# Altium footprint library con-hirose.PCBLIB: 71 footprints (part 1 of 6)
Each footprint in its own frame and in the unit in brackets; x right, y up, seen from the top. Pads: shape width x height; smd on the part's side, far side on the other; paste and mask are expansions set on the pad; w line width, h text height; cw(c..) or ccw(c..) is an arc to the next point about the centre after c.
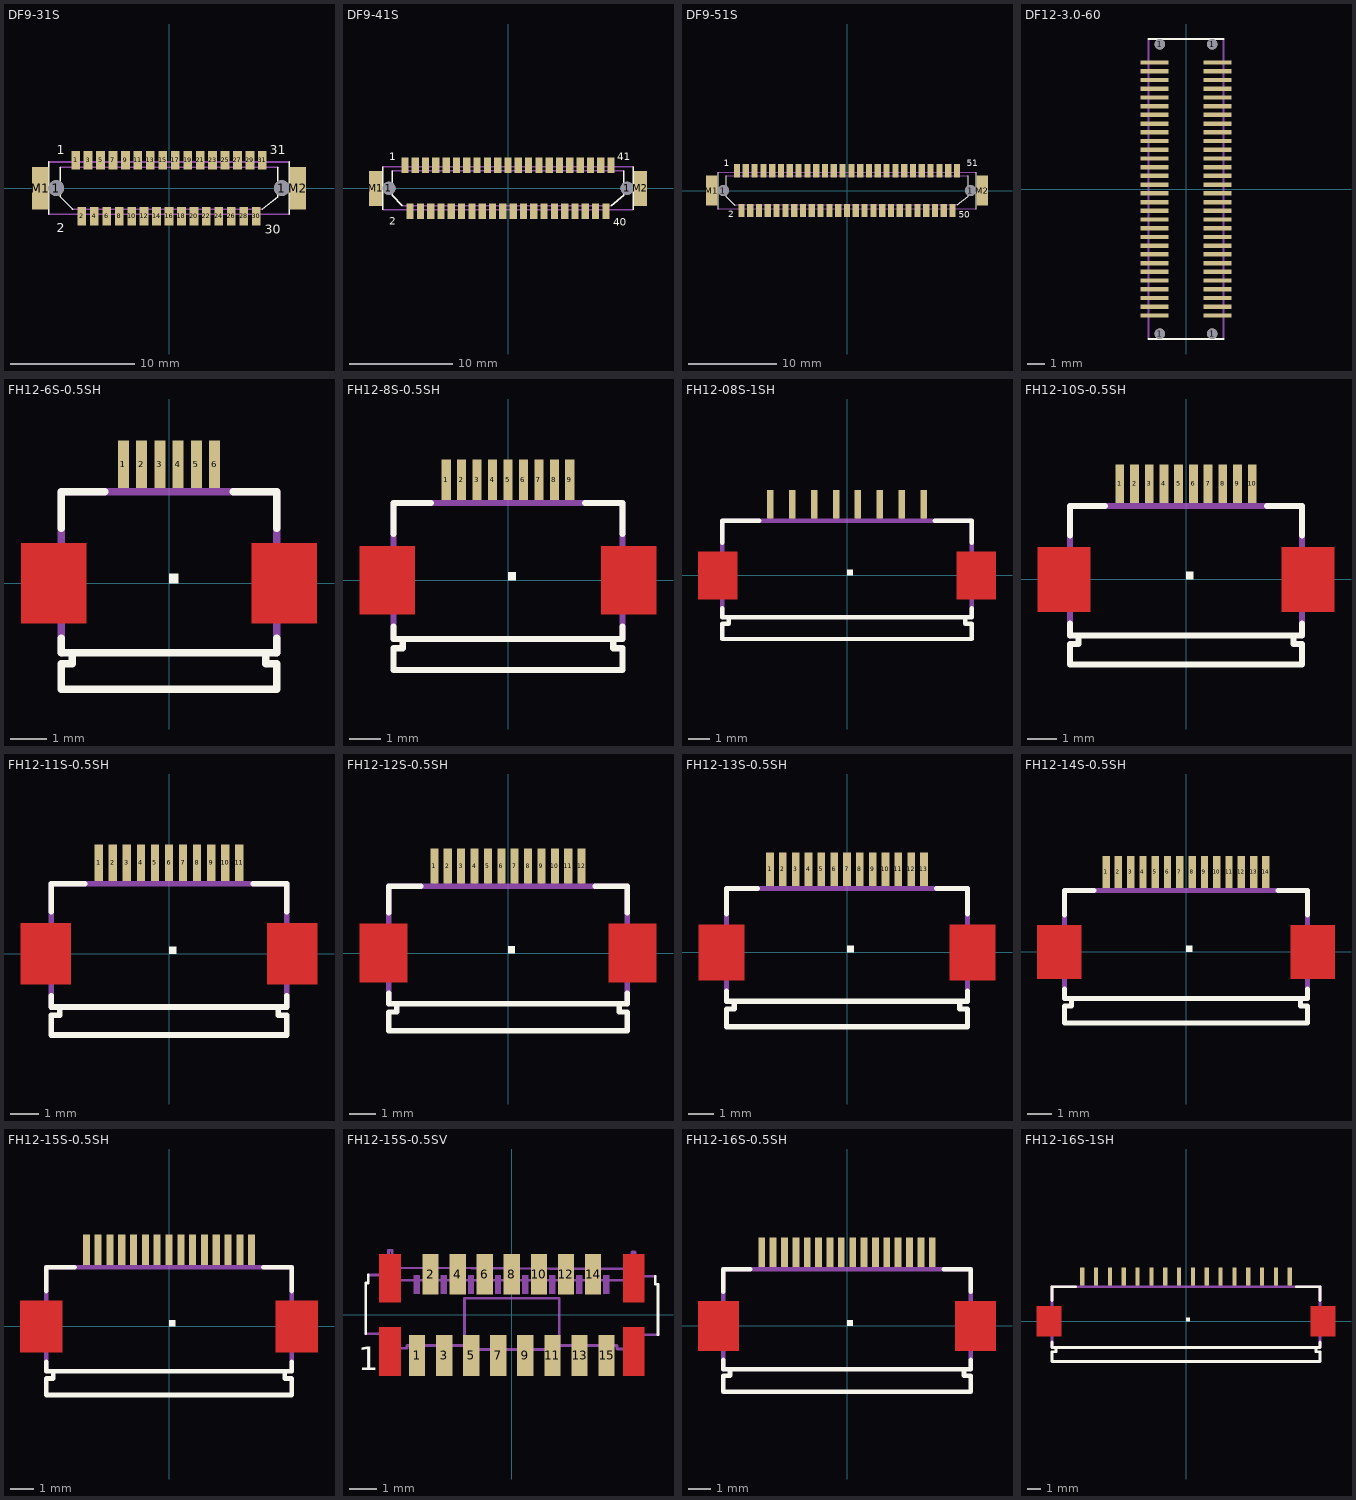
[diagram p0: the footprints below, top view; thin cyan lines are the x and y axes]

## DF9-31S [mm]
pads (35):
  round 1.27 hole 1.27: 1(-9.05,0) 1(9.05,0)
  rect 0.7x1.5 smd: 1(-7.5,2.25) 2(-7,-2.25) 3(-6.5,2.25) 4(-6,-2.25) 5(-5.5,2.25) 6(-5,-2.25) 7(-4.5,2.25) 8(-4,-2.25) 9(-3.5,2.25) 10(-3,-2.25) 11(-2.5,2.25) 12(-2,-2.25) 13(-1.5,2.25) 14(-1,-2.25) 15(-0.5,2.25) 16(0,-2.25) 17(0.5,2.25) 18(1,-2.25) 19(1.5,2.25) 20(2,-2.25) 21(2.5,2.25) 22(3,-2.25) 23(3.5,2.25) 24(4,-2.25) 25(4.5,2.25) 26(5,-2.25) 27(5.5,2.25) 28(6,-2.25) 29(6.5,2.25) 30(7,-2.25) 31(7.5,2.25)
  rect 1.3x3.4 smd: M1(-10.35,0) M2(10.35,0)
Top Overlay:
  lines w0.127: -9.65,-2.1 -9.65,2.1 ; -8.75,1.68 -8.75,-0.68 -7.75,-1.68 ; 7.5,-1.68 8.75,-0.68 8.75,1.68 ; 9.65,-2.1 9.65,2.1
  text "1" at -9,2.5 h1.26
  text "2" at -9,-3.8 h1.26
  text "30" at 7.7,-3.9 h1.26
  text "31" at 8.1,2.5 h1.26
Mechanical 16:
  lines w0.127: -9.65,-2.1 9.65,-2.1 ; -9.65,2.1 9.65,2.1 ; -8.75,1.68 8.75,1.68 ; -7.75,-1.68 7.5,-1.68

## DF9-41S [mm]
pads (45):
  round 1.27 hole 1.27: 1(-11.55,0) 1(11.55,0)
  rect 0.7x1.5 smd: 1(-10,2.25) 2(-9.5,-2.25) 3(-9,2.25) 4(-8.5,-2.25) 5(-8,2.25) 6(-7.5,-2.25) 7(-7,2.25) 8(-6.5,-2.25) 9(-6,2.25) 10(-5.5,-2.25) 11(-5,2.25) 12(-4.5,-2.25) 13(-4,2.25) 14(-3.5,-2.25) 15(-3,2.25) 16(-2.5,-2.25) 17(-2,2.25) 18(-1.5,-2.25) 19(-1,2.25) 20(-0.5,-2.25) 21(0,2.25) 22(0.5,-2.25) 23(1,2.25) 24(1.5,-2.25) 25(2,2.25) 26(2.5,-2.25) 27(3,2.25) 28(3.5,-2.25) 29(4,2.25) 30(4.5,-2.25) 31(5,2.25) 32(5.5,-2.25) 33(6,2.25) 34(6.5,-2.25) 35(7,2.25) 36(7.5,-2.25) 37(8,2.25) 38(8.5,-2.25) 39(9,2.25) 40(9.5,-2.25) 41(10,2.25)
  rect 1.3x3.4 smd: M1(-12.85,0) M2(12.85,0)
Top Overlay:
  lines w0.127: -12.15,-2.1 -12.15,2.1 ; -11.25,1.68 -11.25,-0.68 -10.25,-1.68 ; 10,-1.68 11.25,-0.68 11.25,1.68 ; 12.15,-2.1 12.15,2.1
  text "1" at -11.5,2.5 h1.26
  text "2" at -11.5,-3.8 h1.26
  text "40" at 10.2,-3.9 h1.26
  text "41" at 10.6,2.5 h1.26
Mechanical 16:
  lines w0.127: -12.15,-2.1 12.15,-2.1 ; -12.15,2.1 12.15,2.1 ; -11.25,1.68 11.25,1.68 ; -10.25,-1.68 10,-1.68

## DF9-51S [mm]
pads (55):
  round 1.27 hole 1.27: 1(-14.05,0) 1(14.05,0)
  rect 0.7x1.5 smd: 1(-12.5,2.25) 2(-12,-2.25) 3(-11.5,2.25) 4(-11,-2.25) 5(-10.5,2.25) 6(-10,-2.25) 7(-9.5,2.25) 8(-9,-2.25) 9(-8.5,2.25) 10(-8,-2.25) 11(-7.5,2.25) 12(-7,-2.25) 13(-6.5,2.25) 14(-6,-2.25) 15(-5.5,2.25) 16(-5,-2.25) 17(-4.5,2.25) 18(-4,-2.25) 19(-3.5,2.25) 20(-3,-2.25) 21(-2.5,2.25) 22(-2,-2.25) 23(-1.5,2.25) 24(-1,-2.25) 25(-0.5,2.25) 26(0,-2.25) 27(0.5,2.25) 28(1,-2.25) 29(1.5,2.25) 30(2,-2.25) 31(2.5,2.25) 32(3,-2.25) 33(3.5,2.25) 34(4,-2.25) 35(4.5,2.25) 36(5,-2.25) 37(5.5,2.25) 38(6,-2.25) 39(6.5,2.25) 40(7,-2.25) 41(7.5,2.25) 42(8,-2.25) 43(8.5,2.25) 44(9,-2.25) 45(9.5,2.25) 46(10,-2.25) 47(10.5,2.25) 48(11,-2.25) 49(11.5,2.25) 50(12,-2.25) 51(12.5,2.25)
  rect 1.3x3.4 smd: M1(-15.35,0) M2(15.35,0)
Top Overlay:
  lines w0.127: -14.65,-2.1 -14.65,2.1 ; -13.75,1.68 -13.75,-0.68 -12.75,-1.68 ; 12.5,-1.68 13.75,-0.68 13.75,1.68 ; 14.65,-2.1 14.65,2.1
  text "1" at -14,2.5 h1.26
  text "2" at -13.5,-3.3 h1.26
  text "50" at 12.7,-3.4 h1.26
  text "51" at 13.6,2.5 h1.26
Mechanical 16:
  lines w0.127: -14.65,-2.1 14.65,-2.1 ; -14.65,2.1 14.65,2.1 ; -13.75,1.68 13.75,1.68 ; -12.75,-1.68 12.5,-1.68

## DF12-3.0-60 [mm]
pads (64):
  round 0.6 hole 0.6: 1(-1.5,-8.3) 1(-1.5,8.3) 1(1.5,-8.3) 1(1.5,8.3)
  rect 1.6x0.25 smd: 1(1.8,7.25) 2(1.8,6.75) 3(1.8,6.25) 4(1.8,5.75) 5(1.8,5.25) 6(1.8,4.75) 7(1.8,4.25) 8(1.8,3.75) 9(1.8,3.25) 10(1.8,2.75) 11(1.8,2.25) 12(1.8,1.75) 13(1.8,1.25) 14(1.8,0.75) 15(1.8,0.25) 16(1.8,-0.25) 17(1.8,-0.75) 18(1.8,-1.25) 19(1.8,-1.75) 20(1.8,-2.25) 21(1.8,-2.75) 22(1.8,-3.25) 23(1.8,-3.75) 24(1.8,-4.25) 25(1.8,-4.75) 26(1.8,-5.25) 27(1.8,-5.75) 28(1.8,-6.25) 29(1.8,-6.75) 30(1.8,-7.25) 31(-1.8,-7.25) 32(-1.8,-6.75) 33(-1.8,-6.25) 34(-1.8,-5.75) 35(-1.8,-5.25) 36(-1.8,-4.75) 37(-1.8,-4.25) 38(-1.8,-3.75) 39(-1.8,-3.25) 40(-1.8,-2.75) 41(-1.8,-2.25) 42(-1.8,-1.75) 43(-1.8,-1.25) 44(-1.8,-0.75) 45(-1.8,-0.25) 46(-1.8,0.25) 47(-1.8,0.75) 48(-1.8,1.25) 49(-1.8,1.75) 50(-1.8,2.25) 51(-1.8,2.75) 52(-1.8,3.25) 53(-1.8,3.75) 54(-1.8,4.25) 55(-1.8,4.75) 56(-1.8,5.25) 57(-1.8,5.75) 58(-1.8,6.25) 59(-1.8,6.75) 60(-1.8,7.25)
Top Overlay:
  lines w0.127: -2.15,-8.6 2.15,-8.6 ; -2.15,8.6 2.15,8.6
Mechanical 16:
  lines w0.127: -2.15,-8.6 -2.15,8.6 ; 2.15,-8.6 2.15,8.6

## FH12-6S-0.5SH [mm]
pads (6):
  rect 0.3x1.3 smd: 1(-1.25,3.25) 2(-0.75,3.25) 3(-0.25,3.25) 4(0.25,3.25) 5(0.75,3.25) 6(1.25,3.25)
Top Layer:
  region: 4.05,1.1 2.25,1.1 2.25,-1.1 4.05,-1.1
  region: -2.25,1.1 -4.05,1.1 -4.05,-1.1 -2.25,-1.1
Top Overlay:
  region: 0,0 0.254,0 0.254,0.254 0,0.254
  lines w0.203: -2.95,-1.5 -2.95,-1.9 -2.65,-1.9 ; -2.95,1.5 -2.95,2.5 -1.75,2.5 ; 1.75,2.5 2.95,2.5 2.95,1.5 ; 2.95,-1.5 2.95,-1.9 2.65,-1.9 ; -2.65,-1.9 -2.65,-2.2 -2.95,-2.2 -2.95,-2.9 2.95,-2.9 2.95,-2.2 2.65,-2.2 2.65,-1.9 ; -2.65,-1.9 2.65,-1.9
Top Paste:
  rectangle: -1.375,2.625 -1.125,3.875
  rectangle: -0.875,2.625 -0.625,3.875
  rectangle: -0.375,2.625 -0.125,3.875
  rectangle: 0.125,2.625 0.375,3.875
  rectangle: 0.625,2.625 0.875,3.875
  rectangle: 1.125,2.625 1.375,3.875
  region: 3.975,1.025 2.325,1.025 2.325,-1.025 3.975,-1.025
  region: -2.325,1.025 -3.975,1.025 -3.975,-1.025 -2.325,-1.025
Top Solder:
  rectangle: -1.45,2.55 -1.05,3.95
  rectangle: -0.95,2.55 -0.55,3.95
  rectangle: -0.45,2.55 -0.05,3.95
  rectangle: 0.05,2.55 0.45,3.95
  rectangle: 0.55,2.55 0.95,3.95
  rectangle: 1.05,2.55 1.45,3.95
  region: 4.1,1.175 2.2,1.175 2.2,-1.175 4.1,-1.175
  region: -2.2,1.175 -4.1,1.175 -4.1,-1.175 -2.2,-1.175
Mechanical 16:
  rectangle: -1.35,2.55 -1.15,3.4
  rectangle: -0.85,2.55 -0.65,3.4
  rectangle: -0.35,2.55 -0.15,3.4
  rectangle: 0.15,2.55 0.35,3.4
  rectangle: 0.65,2.55 0.85,3.4
  rectangle: 1.15,2.55 1.35,3.4
  lines w0.203: -2.95,-1.9 -2.95,-0.5 -3.45,-0.5 -3.45,0.5 -2.95,0.5 -2.95,2.5 2.95,2.5 2.95,0.5 3.45,0.5 3.45,-0.5 2.95,-0.5 2.95,-1.9

## FH12-8S-0.5SH [mm]
pads (9):
  rect 0.3x1.3 smd: 1(-2,3.25) 2(-1.5,3.25) 3(-1,3.25) 4(-0.5,3.25) 5(0,3.25) 6(0.5,3.25) 7(1,3.25) 8(1.5,3.25) 9(2,3.25)
Top Layer:
  region: 4.8,1.1 3,1.1 3,-1.1 4.8,-1.1
  region: -3,1.1 -4.8,1.1 -4.8,-1.1 -3,-1.1
Top Overlay:
  region: 0,0 0.254,0 0.254,0.254 0,0.254
  lines w0.203: -3.7,-1.5 -3.7,-1.9 -3.4,-1.9 ; -3.7,1.5 -3.7,2.5 -2.5,2.5 ; 2.5,2.5 3.7,2.5 3.7,1.5 ; 3.7,-1.5 3.7,-1.9 3.4,-1.9 ; -3.4,-1.9 -3.4,-2.2 -3.7,-2.2 -3.7,-2.9 3.7,-2.9 3.7,-2.2 3.4,-2.2 3.4,-1.9 ; -3.4,-1.9 3.4,-1.9
Top Paste:
  rectangle: -2.125,2.625 -1.875,3.875
  rectangle: -1.625,2.625 -1.375,3.875
  rectangle: -1.125,2.625 -0.875,3.875
  rectangle: -0.625,2.625 -0.375,3.875
  rectangle: -0.125,2.625 0.125,3.875
  rectangle: 0.375,2.625 0.625,3.875
  rectangle: 0.875,2.625 1.125,3.875
  rectangle: 1.375,2.625 1.625,3.875
  rectangle: 1.875,2.625 2.125,3.875
  region: 4.725,1.025 3.075,1.025 3.075,-1.025 4.725,-1.025
  region: -3.075,1.025 -4.725,1.025 -4.725,-1.025 -3.075,-1.025
Top Solder:
  rectangle: -2.2,2.55 -1.8,3.95
  rectangle: -1.7,2.55 -1.3,3.95
  rectangle: -1.2,2.55 -0.8,3.95
  rectangle: -0.7,2.55 -0.3,3.95
  rectangle: -0.2,2.55 0.2,3.95
  rectangle: 0.3,2.55 0.7,3.95
  rectangle: 0.8,2.55 1.2,3.95
  rectangle: 1.3,2.55 1.7,3.95
  rectangle: 1.8,2.55 2.2,3.95
  region: 4.85,1.175 2.95,1.175 2.95,-1.175 4.85,-1.175
  region: -2.95,1.175 -4.85,1.175 -4.85,-1.175 -2.95,-1.175
Mechanical 16:
  rectangle: -2.1,2.55 -1.9,3.4
  rectangle: -1.6,2.55 -1.4,3.4
  rectangle: -1.1,2.55 -0.9,3.4
  rectangle: -0.6,2.55 -0.4,3.4
  rectangle: -0.1,2.55 0.1,3.4
  rectangle: 0.4,2.55 0.6,3.4
  rectangle: 0.9,2.55 1.1,3.4
  rectangle: 1.4,2.55 1.6,3.4
  rectangle: 1.9,2.55 2.1,3.4
  lines w0.203: -3.7,-1.9 -3.7,-0.5 -4.2,-0.5 -4.2,0.5 -3.7,0.5 -3.7,2.5 3.7,2.5 3.7,0.5 4.2,0.5 4.2,-0.5 3.7,-0.5 3.7,-1.9

## FH12-08S-1SH [mm]
pads (8):
  rect 0.3x1.3 smd: 1(-3.5,3.25) 2(-2.5,3.25) 3(-1.5,3.25) 4(-0.5,3.25) 5(0.5,3.25) 6(1.5,3.25) 7(2.5,3.25) 8(3.5,3.25)
Top Layer:
  region: 6.8,1.1 5,1.1 5,-1.1 6.8,-1.1
  region: -5,1.1 -6.8,1.1 -6.8,-1.1 -5,-1.1
Top Overlay:
  region: 0,0 0.254,0 0.254,0.254 0,0.254
  lines w0.203: -5.7,-1.5 -5.7,-1.9 -5.4,-1.9 ; -5.7,1.5 -5.7,2.5 -4,2.5 ; 4,2.5 5.7,2.5 5.7,1.5 ; 5.7,-1.5 5.7,-1.9 5.4,-1.9 ; -5.4,-1.9 -5.4,-2.2 -5.7,-2.2 -5.7,-2.9 5.7,-2.9 5.7,-2.2 5.4,-2.2 5.4,-1.9 ; -5.4,-1.9 5.4,-1.9
Top Paste:
  rectangle: -3.625,2.625 -3.375,3.875
  rectangle: -2.625,2.625 -2.375,3.875
  rectangle: -1.625,2.625 -1.375,3.875
  rectangle: -0.625,2.625 -0.375,3.875
  rectangle: 0.375,2.625 0.625,3.875
  rectangle: 1.375,2.625 1.625,3.875
  rectangle: 2.375,2.625 2.625,3.875
  rectangle: 3.375,2.625 3.625,3.875
  region: 6.725,1.025 5.075,1.025 5.075,-1.025 6.725,-1.025
  region: -5.075,1.025 -6.725,1.025 -6.725,-1.025 -5.075,-1.025
Top Solder:
  rectangle: -3.7,2.55 -3.3,3.95
  rectangle: -2.7,2.55 -2.3,3.95
  rectangle: -1.7,2.55 -1.3,3.95
  rectangle: -0.7,2.55 -0.3,3.95
  rectangle: 0.3,2.55 0.7,3.95
  rectangle: 1.3,2.55 1.7,3.95
  rectangle: 2.3,2.55 2.7,3.95
  rectangle: 3.3,2.55 3.7,3.95
  region: 6.85,1.175 4.95,1.175 4.95,-1.175 6.85,-1.175
  region: -4.95,1.175 -6.85,1.175 -6.85,-1.175 -4.95,-1.175
Mechanical 16:
  rectangle: -3.6,2.55 -3.4,3.4
  rectangle: -2.6,2.55 -2.4,3.4
  rectangle: -1.6,2.55 -1.4,3.4
  rectangle: -0.6,2.55 -0.4,3.4
  rectangle: 0.4,2.55 0.6,3.4
  rectangle: 1.4,2.55 1.6,3.4
  rectangle: 2.4,2.55 2.6,3.4
  rectangle: 3.4,2.55 3.6,3.4
  lines w0.203: -5.7,-1.9 -5.7,-0.5 -6.2,-0.5 -6.2,0.5 -5.7,0.5 -5.7,2.5 5.7,2.5 5.7,0.5 6.2,0.5 6.2,-0.5 5.7,-0.5 5.7,-1.9

## FH12-10S-0.5SH [mm]
pads (10):
  rect 0.3x1.3 smd: 1(-2.25,3.25) 2(-1.75,3.25) 3(-1.25,3.25) 4(-0.75,3.25) 5(-0.25,3.25) 6(0.25,3.25) 7(0.75,3.25) 8(1.25,3.25) 9(1.75,3.25) 10(2.25,3.25)
Top Layer:
  region: 5.05,1.1 3.25,1.1 3.25,-1.1 5.05,-1.1
  region: -3.25,1.1 -5.05,1.1 -5.05,-1.1 -3.25,-1.1
Top Overlay:
  region: 0,0 0.254,0 0.254,0.254 0,0.254
  lines w0.203: -3.95,-1.5 -3.95,-1.9 -3.65,-1.9 ; -3.95,1.5 -3.95,2.5 -2.75,2.5 ; 2.75,2.5 3.95,2.5 3.95,1.5 ; 3.95,-1.5 3.95,-1.9 3.65,-1.9 ; -3.65,-1.9 -3.65,-2.2 -3.95,-2.2 -3.95,-2.9 3.95,-2.9 3.95,-2.2 3.65,-2.2 3.65,-1.9 ; -3.65,-1.9 3.65,-1.9
Top Paste:
  rectangle: -2.375,2.625 -2.125,3.875
  rectangle: -1.875,2.625 -1.625,3.875
  rectangle: -1.375,2.625 -1.125,3.875
  rectangle: -0.875,2.625 -0.625,3.875
  rectangle: -0.375,2.625 -0.125,3.875
  rectangle: 0.125,2.625 0.375,3.875
  rectangle: 0.625,2.625 0.875,3.875
  rectangle: 1.125,2.625 1.375,3.875
  rectangle: 1.625,2.625 1.875,3.875
  rectangle: 2.125,2.625 2.375,3.875
  region: 4.975,1.025 3.325,1.025 3.325,-1.025 4.975,-1.025
  region: -3.325,1.025 -4.975,1.025 -4.975,-1.025 -3.325,-1.025
Top Solder:
  rectangle: -2.45,2.55 -2.05,3.95
  rectangle: -1.95,2.55 -1.55,3.95
  rectangle: -1.45,2.55 -1.05,3.95
  rectangle: -0.95,2.55 -0.55,3.95
  rectangle: -0.45,2.55 -0.05,3.95
  rectangle: 0.05,2.55 0.45,3.95
  rectangle: 0.55,2.55 0.95,3.95
  rectangle: 1.05,2.55 1.45,3.95
  rectangle: 1.55,2.55 1.95,3.95
  rectangle: 2.05,2.55 2.45,3.95
  region: 5.1,1.175 3.2,1.175 3.2,-1.175 5.1,-1.175
  region: -3.2,1.175 -5.1,1.175 -5.1,-1.175 -3.2,-1.175
Mechanical 16:
  rectangle: -2.35,2.55 -2.15,3.4
  rectangle: -1.85,2.55 -1.65,3.4
  rectangle: -1.35,2.55 -1.15,3.4
  rectangle: -0.85,2.55 -0.65,3.4
  rectangle: -0.35,2.55 -0.15,3.4
  rectangle: 0.15,2.55 0.35,3.4
  rectangle: 0.65,2.55 0.85,3.4
  rectangle: 1.15,2.55 1.35,3.4
  rectangle: 1.65,2.55 1.85,3.4
  rectangle: 2.15,2.55 2.35,3.4
  lines w0.203: -3.95,-1.9 -3.95,-0.5 -4.45,-0.5 -4.45,0.5 -3.95,0.5 -3.95,2.5 3.95,2.5 3.95,0.5 4.45,0.5 4.45,-0.5 3.95,-0.5 3.95,-1.9

## FH12-11S-0.5SH [mm]
pads (11):
  rect 0.3x1.3 smd: 1(-2.5,3.25) 2(-2,3.25) 3(-1.5,3.25) 4(-1,3.25) 5(-0.5,3.25) 6(0,3.25) 7(0.5,3.25) 8(1,3.25) 9(1.5,3.25) 10(2,3.25) 11(2.5,3.25)
Top Layer:
  region: 5.3,1.1 3.5,1.1 3.5,-1.1 5.3,-1.1
  region: -3.5,1.1 -5.3,1.1 -5.3,-1.1 -3.5,-1.1
Top Overlay:
  region: 0,0 0.254,0 0.254,0.254 0,0.254
  lines w0.203: -4.2,-1.5 -4.2,-1.9 -3.9,-1.9 ; -4.2,1.5 -4.2,2.5 -3,2.5 ; 3,2.5 4.2,2.5 4.2,1.5 ; 4.2,-1.5 4.2,-1.9 3.9,-1.9 ; -3.9,-1.9 -3.9,-2.2 -4.2,-2.2 -4.2,-2.9 4.2,-2.9 4.2,-2.2 3.9,-2.2 3.9,-1.9 ; -3.9,-1.9 3.9,-1.9
Top Paste:
  rectangle: -2.625,2.625 -2.375,3.875
  rectangle: -2.125,2.625 -1.875,3.875
  rectangle: -1.625,2.625 -1.375,3.875
  rectangle: -1.125,2.625 -0.875,3.875
  rectangle: -0.625,2.625 -0.375,3.875
  rectangle: -0.125,2.625 0.125,3.875
  rectangle: 0.375,2.625 0.625,3.875
  rectangle: 0.875,2.625 1.125,3.875
  rectangle: 1.375,2.625 1.625,3.875
  rectangle: 1.875,2.625 2.125,3.875
  rectangle: 2.375,2.625 2.625,3.875
  region: 5.225,1.025 3.575,1.025 3.575,-1.025 5.225,-1.025
  region: -3.575,1.025 -5.225,1.025 -5.225,-1.025 -3.575,-1.025
Top Solder:
  rectangle: -2.7,2.55 -2.3,3.95
  rectangle: -2.2,2.55 -1.8,3.95
  rectangle: -1.7,2.55 -1.3,3.95
  rectangle: -1.2,2.55 -0.8,3.95
  rectangle: -0.7,2.55 -0.3,3.95
  rectangle: -0.2,2.55 0.2,3.95
  rectangle: 0.3,2.55 0.7,3.95
  rectangle: 0.8,2.55 1.2,3.95
  rectangle: 1.3,2.55 1.7,3.95
  rectangle: 1.8,2.55 2.2,3.95
  rectangle: 2.3,2.55 2.7,3.95
  region: 5.35,1.175 3.45,1.175 3.45,-1.175 5.35,-1.175
  region: -3.45,1.175 -5.35,1.175 -5.35,-1.175 -3.45,-1.175
Mechanical 16:
  rectangle: -2.6,2.55 -2.4,3.4
  rectangle: -2.1,2.55 -1.9,3.4
  rectangle: -1.6,2.55 -1.4,3.4
  rectangle: -1.1,2.55 -0.9,3.4
  rectangle: -0.6,2.55 -0.4,3.4
  rectangle: -0.1,2.55 0.1,3.4
  rectangle: 0.4,2.55 0.6,3.4
  rectangle: 0.9,2.55 1.1,3.4
  rectangle: 1.4,2.55 1.6,3.4
  rectangle: 1.9,2.55 2.1,3.4
  rectangle: 2.4,2.55 2.6,3.4
  lines w0.203: -4.2,-1.9 -4.2,-0.5 -4.7,-0.5 -4.7,0.5 -4.2,0.5 -4.2,2.5 4.2,2.5 4.2,0.5 4.7,0.5 4.7,-0.5 4.2,-0.5 4.2,-1.9

## FH12-12S-0.5SH [mm]
pads (12):
  rect 0.3x1.3 smd: 1(-2.75,3.25) 2(-2.25,3.25) 3(-1.75,3.25) 4(-1.25,3.25) 5(-0.75,3.25) 6(-0.25,3.25) 7(0.25,3.25) 8(0.75,3.25) 9(1.25,3.25) 10(1.75,3.25) 11(2.25,3.25) 12(2.75,3.25)
Top Layer:
  region: 5.55,1.1 3.75,1.1 3.75,-1.1 5.55,-1.1
  region: -3.75,1.1 -5.55,1.1 -5.55,-1.1 -3.75,-1.1
Top Overlay:
  region: 0,0 0.254,0 0.254,0.254 0,0.254
  lines w0.203: -4.45,-1.5 -4.45,-1.9 -4.15,-1.9 ; -4.45,1.5 -4.45,2.5 -3.25,2.5 ; 3.25,2.5 4.45,2.5 4.45,1.5 ; 4.45,-1.5 4.45,-1.9 4.15,-1.9 ; -4.15,-1.9 -4.15,-2.2 -4.45,-2.2 -4.45,-2.9 4.45,-2.9 4.45,-2.2 4.15,-2.2 4.15,-1.9 ; -4.15,-1.9 4.15,-1.9
Top Paste:
  rectangle: -2.875,2.625 -2.625,3.875
  rectangle: -2.375,2.625 -2.125,3.875
  rectangle: -1.875,2.625 -1.625,3.875
  rectangle: -1.375,2.625 -1.125,3.875
  rectangle: -0.875,2.625 -0.625,3.875
  rectangle: -0.375,2.625 -0.125,3.875
  rectangle: 0.125,2.625 0.375,3.875
  rectangle: 0.625,2.625 0.875,3.875
  rectangle: 1.125,2.625 1.375,3.875
  rectangle: 1.625,2.625 1.875,3.875
  rectangle: 2.125,2.625 2.375,3.875
  rectangle: 2.625,2.625 2.875,3.875
  region: 5.475,1.025 3.825,1.025 3.825,-1.025 5.475,-1.025
  region: -3.825,1.025 -5.475,1.025 -5.475,-1.025 -3.825,-1.025
Top Solder:
  rectangle: -2.95,2.55 -2.55,3.95
  rectangle: -2.45,2.55 -2.05,3.95
  rectangle: -1.95,2.55 -1.55,3.95
  rectangle: -1.45,2.55 -1.05,3.95
  rectangle: -0.95,2.55 -0.55,3.95
  rectangle: -0.45,2.55 -0.05,3.95
  rectangle: 0.05,2.55 0.45,3.95
  rectangle: 0.55,2.55 0.95,3.95
  rectangle: 1.05,2.55 1.45,3.95
  rectangle: 1.55,2.55 1.95,3.95
  rectangle: 2.05,2.55 2.45,3.95
  rectangle: 2.55,2.55 2.95,3.95
  region: 5.6,1.175 3.7,1.175 3.7,-1.175 5.6,-1.175
  region: -3.7,1.175 -5.6,1.175 -5.6,-1.175 -3.7,-1.175
Mechanical 16:
  rectangle: -2.85,2.55 -2.65,3.4
  rectangle: -2.35,2.55 -2.15,3.4
  rectangle: -1.85,2.55 -1.65,3.4
  rectangle: -1.35,2.55 -1.15,3.4
  rectangle: -0.85,2.55 -0.65,3.4
  rectangle: -0.35,2.55 -0.15,3.4
  rectangle: 0.15,2.55 0.35,3.4
  rectangle: 0.65,2.55 0.85,3.4
  rectangle: 1.15,2.55 1.35,3.4
  rectangle: 1.65,2.55 1.85,3.4
  rectangle: 2.15,2.55 2.35,3.4
  rectangle: 2.65,2.55 2.85,3.4
  lines w0.203: -4.45,-1.9 -4.45,-0.5 -4.95,-0.5 -4.95,0.5 -4.45,0.5 -4.45,2.5 4.45,2.5 4.45,0.5 4.95,0.5 4.95,-0.5 4.45,-0.5 4.45,-1.9

## FH12-13S-0.5SH [mm]
pads (13):
  rect 0.3x1.3 smd: 1(-3,3.25) 2(-2.5,3.25) 3(-2,3.25) 4(-1.5,3.25) 5(-1,3.25) 6(-0.5,3.25) 7(0,3.25) 8(0.5,3.25) 9(1,3.25) 10(1.5,3.25) 11(2,3.25) 12(2.5,3.25) 13(3,3.25)
Top Layer:
  region: 5.8,1.1 4,1.1 4,-1.1 5.8,-1.1
  region: -4,1.1 -5.8,1.1 -5.8,-1.1 -4,-1.1
Top Overlay:
  region: 0,0 0.254,0 0.254,0.254 0,0.254
  lines w0.203: -4.7,-1.5 -4.7,-1.9 -4.4,-1.9 ; -4.7,1.5 -4.7,2.5 -3.5,2.5 ; 3.5,2.5 4.7,2.5 4.7,1.5 ; 4.7,-1.5 4.7,-1.9 4.4,-1.9 ; -4.4,-1.9 -4.4,-2.2 -4.7,-2.2 -4.7,-2.9 4.7,-2.9 4.7,-2.2 4.4,-2.2 4.4,-1.9 ; -4.4,-1.9 4.4,-1.9
Top Paste:
  rectangle: -3.125,2.625 -2.875,3.875
  rectangle: -2.625,2.625 -2.375,3.875
  rectangle: -2.125,2.625 -1.875,3.875
  rectangle: -1.625,2.625 -1.375,3.875
  rectangle: -1.125,2.625 -0.875,3.875
  rectangle: -0.625,2.625 -0.375,3.875
  rectangle: -0.125,2.625 0.125,3.875
  rectangle: 0.375,2.625 0.625,3.875
  rectangle: 0.875,2.625 1.125,3.875
  rectangle: 1.375,2.625 1.625,3.875
  rectangle: 1.875,2.625 2.125,3.875
  rectangle: 2.375,2.625 2.625,3.875
  rectangle: 2.875,2.625 3.125,3.875
  region: 5.725,1.025 4.075,1.025 4.075,-1.025 5.725,-1.025
  region: -4.075,1.025 -5.725,1.025 -5.725,-1.025 -4.075,-1.025
Top Solder:
  rectangle: -3.2,2.55 -2.8,3.95
  rectangle: -2.7,2.55 -2.3,3.95
  rectangle: -2.2,2.55 -1.8,3.95
  rectangle: -1.7,2.55 -1.3,3.95
  rectangle: -1.2,2.55 -0.8,3.95
  rectangle: -0.7,2.55 -0.3,3.95
  rectangle: -0.2,2.55 0.2,3.95
  rectangle: 0.3,2.55 0.7,3.95
  rectangle: 0.8,2.55 1.2,3.95
  rectangle: 1.3,2.55 1.7,3.95
  rectangle: 1.8,2.55 2.2,3.95
  rectangle: 2.3,2.55 2.7,3.95
  rectangle: 2.8,2.55 3.2,3.95
  region: 5.85,1.175 3.95,1.175 3.95,-1.175 5.85,-1.175
  region: -3.95,1.175 -5.85,1.175 -5.85,-1.175 -3.95,-1.175
Mechanical 16:
  rectangle: -3.1,2.55 -2.9,3.4
  rectangle: -2.6,2.55 -2.4,3.4
  rectangle: -2.1,2.55 -1.9,3.4
  rectangle: -1.6,2.55 -1.4,3.4
  rectangle: -1.1,2.55 -0.9,3.4
  rectangle: -0.6,2.55 -0.4,3.4
  rectangle: -0.1,2.55 0.1,3.4
  rectangle: 0.4,2.55 0.6,3.4
  rectangle: 0.9,2.55 1.1,3.4
  rectangle: 1.4,2.55 1.6,3.4
  rectangle: 1.9,2.55 2.1,3.4
  rectangle: 2.4,2.55 2.6,3.4
  rectangle: 2.9,2.55 3.1,3.4
  lines w0.203: -4.7,-1.9 -4.7,-0.5 -5.2,-0.5 -5.2,0.5 -4.7,0.5 -4.7,2.5 4.7,2.5 4.7,0.5 5.2,0.5 5.2,-0.5 4.7,-0.5 4.7,-1.9

## FH12-14S-0.5SH [mm]
pads (14):
  rect 0.3x1.3 smd: 1(-3.25,3.25) 2(-2.75,3.25) 3(-2.25,3.25) 4(-1.75,3.25) 5(-1.25,3.25) 6(-0.75,3.25) 7(-0.25,3.25) 8(0.25,3.25) 9(0.75,3.25) 10(1.25,3.25) 11(1.75,3.25) 12(2.25,3.25) 13(2.75,3.25) 14(3.25,3.25)
Top Layer:
  region: 6.05,1.1 4.25,1.1 4.25,-1.1 6.05,-1.1
  region: -4.25,1.1 -6.05,1.1 -6.05,-1.1 -4.25,-1.1
Top Overlay:
  region: 0,0 0.254,0 0.254,0.254 0,0.254
  lines w0.203: -4.95,-1.5 -4.95,-1.9 -4.65,-1.9 ; -4.95,1.5 -4.95,2.5 -3.75,2.5 ; 3.75,2.5 4.95,2.5 4.95,1.5 ; 4.95,-1.5 4.95,-1.9 4.65,-1.9 ; -4.65,-1.9 -4.65,-2.2 -4.95,-2.2 -4.95,-2.9 4.95,-2.9 4.95,-2.2 4.65,-2.2 4.65,-1.9 ; -4.65,-1.9 4.65,-1.9
Top Paste:
  rectangle: -3.375,2.625 -3.125,3.875
  rectangle: -2.875,2.625 -2.625,3.875
  rectangle: -2.375,2.625 -2.125,3.875
  rectangle: -1.875,2.625 -1.625,3.875
  rectangle: -1.375,2.625 -1.125,3.875
  rectangle: -0.875,2.625 -0.625,3.875
  rectangle: -0.375,2.625 -0.125,3.875
  rectangle: 0.125,2.625 0.375,3.875
  rectangle: 0.625,2.625 0.875,3.875
  rectangle: 1.125,2.625 1.375,3.875
  rectangle: 1.625,2.625 1.875,3.875
  rectangle: 2.125,2.625 2.375,3.875
  rectangle: 2.625,2.625 2.875,3.875
  rectangle: 3.125,2.625 3.375,3.875
  region: 5.975,1.025 4.325,1.025 4.325,-1.025 5.975,-1.025
  region: -4.325,1.025 -5.975,1.025 -5.975,-1.025 -4.325,-1.025
Top Solder:
  rectangle: -3.45,2.55 -3.05,3.95
  rectangle: -2.95,2.55 -2.55,3.95
  rectangle: -2.45,2.55 -2.05,3.95
  rectangle: -1.95,2.55 -1.55,3.95
  rectangle: -1.45,2.55 -1.05,3.95
  rectangle: -0.95,2.55 -0.55,3.95
  rectangle: -0.45,2.55 -0.05,3.95
  rectangle: 0.05,2.55 0.45,3.95
  rectangle: 0.55,2.55 0.95,3.95
  rectangle: 1.05,2.55 1.45,3.95
  rectangle: 1.55,2.55 1.95,3.95
  rectangle: 2.05,2.55 2.45,3.95
  rectangle: 2.55,2.55 2.95,3.95
  rectangle: 3.05,2.55 3.45,3.95
  region: 6.1,1.175 4.2,1.175 4.2,-1.175 6.1,-1.175
  region: -4.2,1.175 -6.1,1.175 -6.1,-1.175 -4.2,-1.175
Mechanical 16:
  rectangle: -3.35,2.55 -3.15,3.4
  rectangle: -2.85,2.55 -2.65,3.4
  rectangle: -2.35,2.55 -2.15,3.4
  rectangle: -1.85,2.55 -1.65,3.4
  rectangle: -1.35,2.55 -1.15,3.4
  rectangle: -0.85,2.55 -0.65,3.4
  rectangle: -0.35,2.55 -0.15,3.4
  rectangle: 0.15,2.55 0.35,3.4
  rectangle: 0.65,2.55 0.85,3.4
  rectangle: 1.15,2.55 1.35,3.4
  rectangle: 1.65,2.55 1.85,3.4
  rectangle: 2.15,2.55 2.35,3.4
  rectangle: 2.65,2.55 2.85,3.4
  rectangle: 3.15,2.55 3.35,3.4
  lines w0.203: -4.95,-1.9 -4.95,-0.5 -5.45,-0.5 -5.45,0.5 -4.95,0.5 -4.95,2.5 4.95,2.5 4.95,0.5 5.45,0.5 5.45,-0.5 4.95,-0.5 4.95,-1.9

## FH12-15S-0.5SH [mm]
pads (15):
  rect 0.3x1.3 smd: 1(-3.5,3.25) 2(-3,3.25) 3(-2.5,3.25) 4(-2,3.25) 5(-1.5,3.25) 6(-1,3.25) 7(-0.5,3.25) 8(0,3.25) 9(0.5,3.25) 10(1,3.25) 11(1.5,3.25) 12(2,3.25) 13(2.5,3.25) 14(3,3.25) 15(3.5,3.25)
Top Layer:
  region: 6.3,1.1 4.5,1.1 4.5,-1.1 6.3,-1.1
  region: -4.5,1.1 -6.3,1.1 -6.3,-1.1 -4.5,-1.1
Top Overlay:
  region: 0,0 0.254,0 0.254,0.254 0,0.254
  lines w0.203: -5.2,-1.5 -5.2,-1.9 -4.9,-1.9 ; -5.2,1.5 -5.2,2.5 -4,2.5 ; 4,2.5 5.2,2.5 5.2,1.5 ; 5.2,-1.5 5.2,-1.9 4.9,-1.9 ; -4.9,-1.9 -4.9,-2.2 -5.2,-2.2 -5.2,-2.9 5.2,-2.9 5.2,-2.2 4.9,-2.2 4.9,-1.9 ; -4.9,-1.9 4.9,-1.9
Top Paste:
  rectangle: -3.625,2.625 -3.375,3.875
  rectangle: -3.125,2.625 -2.875,3.875
  rectangle: -2.625,2.625 -2.375,3.875
  rectangle: -2.125,2.625 -1.875,3.875
  rectangle: -1.625,2.625 -1.375,3.875
  rectangle: -1.125,2.625 -0.875,3.875
  rectangle: -0.625,2.625 -0.375,3.875
  rectangle: -0.125,2.625 0.125,3.875
  rectangle: 0.375,2.625 0.625,3.875
  rectangle: 0.875,2.625 1.125,3.875
  rectangle: 1.375,2.625 1.625,3.875
  rectangle: 1.875,2.625 2.125,3.875
  rectangle: 2.375,2.625 2.625,3.875
  rectangle: 2.875,2.625 3.125,3.875
  rectangle: 3.375,2.625 3.625,3.875
  region: 6.225,1.025 4.575,1.025 4.575,-1.025 6.225,-1.025
  region: -4.575,1.025 -6.225,1.025 -6.225,-1.025 -4.575,-1.025
Top Solder:
  rectangle: -3.7,2.55 -3.3,3.95
  rectangle: -3.2,2.55 -2.8,3.95
  rectangle: -2.7,2.55 -2.3,3.95
  rectangle: -2.2,2.55 -1.8,3.95
  rectangle: -1.7,2.55 -1.3,3.95
  rectangle: -1.2,2.55 -0.8,3.95
  rectangle: -0.7,2.55 -0.3,3.95
  rectangle: -0.2,2.55 0.2,3.95
  rectangle: 0.3,2.55 0.7,3.95
  rectangle: 0.8,2.55 1.2,3.95
  rectangle: 1.3,2.55 1.7,3.95
  rectangle: 1.8,2.55 2.2,3.95
  rectangle: 2.3,2.55 2.7,3.95
  rectangle: 2.8,2.55 3.2,3.95
  rectangle: 3.3,2.55 3.7,3.95
  region: 6.35,1.175 4.45,1.175 4.45,-1.175 6.35,-1.175
  region: -4.45,1.175 -6.35,1.175 -6.35,-1.175 -4.45,-1.175
Mechanical 16:
  rectangle: -3.6,2.55 -3.4,3.4
  rectangle: -3.1,2.55 -2.9,3.4
  rectangle: -2.6,2.55 -2.4,3.4
  rectangle: -2.1,2.55 -1.9,3.4
  rectangle: -1.6,2.55 -1.4,3.4
  rectangle: -1.1,2.55 -0.9,3.4
  rectangle: -0.6,2.55 -0.4,3.4
  rectangle: -0.1,2.55 0.1,3.4
  rectangle: 0.4,2.55 0.6,3.4
  rectangle: 0.9,2.55 1.1,3.4
  rectangle: 1.4,2.55 1.6,3.4
  rectangle: 1.9,2.55 2.1,3.4
  rectangle: 2.4,2.55 2.6,3.4
  rectangle: 2.9,2.55 3.1,3.4
  rectangle: 3.4,2.55 3.6,3.4
  lines w0.203: -5.2,-1.9 -5.2,-0.5 -5.7,-0.5 -5.7,0.5 -5.2,0.5 -5.2,2.5 5.2,2.5 5.2,0.5 5.7,0.5 5.7,-0.5 5.2,-0.5 5.2,-1.9

## FH12-15S-0.5SV [mm]
pads (15):
  rect 0.6x1.5 smd: 1(-3.5,-1.5) 2(-3,1.5) 3(-2.5,-1.5) 4(-2,1.5) 5(-1.5,-1.5) 6(-1,1.5) 7(-0.5,-1.5) 8(0,1.5) 9(0.5,-1.5) 10(1,1.5) 11(1.5,-1.5) 12(2,1.5) 13(2.5,-1.5) 14(3,1.5) 15(3.5,-1.5)
Top Layer:
  rectangle: -4.9,0.45 -4.1,2.25
  rectangle: -4.9,-2.25 -4.1,-0.45
  region: 4.9,-0.45 4.1,-0.45 4.1,-2.25 4.9,-2.25
  region: 4.9,2.25 4.1,2.25 4.1,0.45 4.9,0.45
Top Overlay:
  lines w0.102: -5.4,-0.697 -5.4,1.179 -5.3,1.179 -5.3,1.478 ; 5.3,1.427 5.3,1.129 5.4,1.129 5.4,-0.731
  text "1" at -5.682,-2.042 h0.86
Top Solder:
  rectangle: -3.85,-2.3 -3.15,-0.7
  rectangle: -3.35,0.7 -2.65,2.3
  rectangle: -2.85,-2.3 -2.15,-0.7
  rectangle: -2.35,0.7 -1.65,2.3
  rectangle: -1.85,-2.3 -1.15,-0.7
  rectangle: -1.35,0.7 -0.65,2.3
  rectangle: -0.85,-2.3 -0.15,-0.7
  rectangle: -0.35,0.7 0.35,2.3
  rectangle: 0.15,-2.3 0.85,-0.7
  rectangle: 0.65,0.7 1.35,2.3
  rectangle: 1.15,-2.3 1.85,-0.7
  rectangle: 1.65,0.7 2.35,2.3
  rectangle: 2.15,-2.3 2.85,-0.7
  rectangle: 2.65,0.7 3.35,2.3
  rectangle: 3.15,-2.3 3.85,-0.7
  rectangle: -4.975,0.375 -4.025,2.325
  rectangle: -4.975,-2.325 -4.025,-0.375
  region: 4.975,-0.375 4.025,-0.375 4.025,-2.325 4.975,-2.325
  region: 4.975,2.325 4.025,2.325 4.025,0.375 4.975,0.375
Mechanical 16:
  rectangle: 3.375,0.78 3.607,1.478
  rectangle: 2.875,0.78 3.107,1.478
  rectangle: 1.875,0.78 2.107,1.478
  rectangle: 2.375,0.78 2.607,1.478
  rectangle: 1.375,0.78 1.607,1.478
  rectangle: 0.875,0.78 1.107,1.478
  rectangle: -0.125,0.78 0.107,1.478
  rectangle: 0.375,0.78 0.607,1.478
  rectangle: -0.625,0.78 -0.393,1.478
  rectangle: -1.125,0.78 -0.893,1.478
  rectangle: -2.125,0.78 -1.893,1.478
  rectangle: -1.625,0.78 -1.393,1.478
  rectangle: -2.625,0.78 -2.393,1.478
  rectangle: -3.125,0.78 -2.893,1.478
  rectangle: -3.625,0.78 -3.393,1.478
  region: 3.625,-0.78 3.393,-0.78 3.393,-1.478 3.625,-1.478
  region: 2.625,-0.78 2.393,-0.78 2.393,-1.478 2.625,-1.478
  region: 1.625,-0.78 1.393,-0.78 1.393,-1.478 1.625,-1.478
  region: 0.625,-0.78 0.393,-0.78 0.393,-1.478 0.625,-1.478
  region: -0.375,-0.78 -0.607,-0.78 -0.607,-1.478 -0.375,-1.478
  region: -1.375,-0.78 -1.607,-0.78 -1.607,-1.478 -1.375,-1.478
  region: -2.375,-0.78 -2.607,-0.78 -2.607,-1.478 -2.375,-1.478
  region: -3.375,-0.78 -3.607,-0.78 -3.607,-1.478 -3.375,-1.478
  rectangle: 2.908,1.726 3.074,2.224
  rectangle: 1.908,1.726 2.074,2.224
  rectangle: 0.908,1.726 1.074,2.224
  rectangle: -0.092,1.726 0.074,2.224
  rectangle: -1.092,1.726 -0.926,2.224
  rectangle: -2.092,1.726 -1.926,2.224
  rectangle: -3.092,1.726 -2.926,2.224
  lines w0.102: -5.4,-0.697 -4.786,-0.697 -4.786,-1.145 -4.653,-1.145 -4.653,-1.228 -3.872,-1.228 -3.872,-1.129 -1.758,-1.129 ; -5.3,1.478 -4.553,1.478 -4.553,2.39 -4.42,2.39 -4.42,1.743 4.321,1.693 ; -4.553,-1.278 -4.553,-1.378 -4.404,-1.378 -4.404,-1.278 ; -4.304,1.71 -4.304,1.046 -4.188,1.046 -4.188,1.278 4.188,1.278 4.188,0.979 4.321,0.979 4.321,1.693 ; -1.752,0.614 -1.752,-1.278 1.752,-1.278 1.752,-1.129 ; -1.75,0.614 1.75,0.614 ; 1.752,0.614 1.752,-1.129 ; 4.42,-1.311 4.42,-1.411 4.57,-1.411 4.57,-1.311 ; 5.3,1.427 4.553,1.427 4.553,2.324 4.437,2.324 4.437,1.693 4.321,1.693 ; 5.4,-0.731 4.802,-0.731 4.802,-1.195 4.653,-1.195 4.653,-1.262 3.889,-1.262 3.889,-1.129 1.752,-1.129

## FH12-16S-0.5SH [mm]
pads (16):
  rect 0.3x1.3 smd: 1(-3.75,3.25) 2(-3.25,3.25) 3(-2.75,3.25) 4(-2.25,3.25) 5(-1.75,3.25) 6(-1.25,3.25) 7(-0.75,3.25) 8(-0.25,3.25) 9(0.25,3.25) 10(0.75,3.25) 11(1.25,3.25) 12(1.75,3.25) 13(2.25,3.25) 14(2.75,3.25) 15(3.25,3.25) 16(3.75,3.25)
Top Layer:
  region: 6.55,1.1 4.75,1.1 4.75,-1.1 6.55,-1.1
  region: -4.75,1.1 -6.55,1.1 -6.55,-1.1 -4.75,-1.1
Top Overlay:
  region: 0,0 0.254,0 0.254,0.254 0,0.254
  lines w0.203: -5.45,-1.5 -5.45,-1.9 -5.15,-1.9 ; -5.45,1.5 -5.45,2.5 -4.25,2.5 ; 4.25,2.5 5.45,2.5 5.45,1.5 ; 5.45,-1.5 5.45,-1.9 5.15,-1.9 ; -5.15,-1.9 -5.15,-2.2 -5.45,-2.2 -5.45,-2.9 5.45,-2.9 5.45,-2.2 5.15,-2.2 5.15,-1.9 ; -5.15,-1.9 5.15,-1.9
Top Paste:
  rectangle: -3.875,2.625 -3.625,3.875
  rectangle: -3.375,2.625 -3.125,3.875
  rectangle: -2.875,2.625 -2.625,3.875
  rectangle: -2.375,2.625 -2.125,3.875
  rectangle: -1.875,2.625 -1.625,3.875
  rectangle: -1.375,2.625 -1.125,3.875
  rectangle: -0.875,2.625 -0.625,3.875
  rectangle: -0.375,2.625 -0.125,3.875
  rectangle: 0.125,2.625 0.375,3.875
  rectangle: 0.625,2.625 0.875,3.875
  rectangle: 1.125,2.625 1.375,3.875
  rectangle: 1.625,2.625 1.875,3.875
  rectangle: 2.125,2.625 2.375,3.875
  rectangle: 2.625,2.625 2.875,3.875
  rectangle: 3.125,2.625 3.375,3.875
  rectangle: 3.625,2.625 3.875,3.875
  region: 6.475,1.025 4.825,1.025 4.825,-1.025 6.475,-1.025
  region: -4.825,1.025 -6.475,1.025 -6.475,-1.025 -4.825,-1.025
Top Solder:
  rectangle: -3.95,2.55 -3.55,3.95
  rectangle: -3.45,2.55 -3.05,3.95
  rectangle: -2.95,2.55 -2.55,3.95
  rectangle: -2.45,2.55 -2.05,3.95
  rectangle: -1.95,2.55 -1.55,3.95
  rectangle: -1.45,2.55 -1.05,3.95
  rectangle: -0.95,2.55 -0.55,3.95
  rectangle: -0.45,2.55 -0.05,3.95
  rectangle: 0.05,2.55 0.45,3.95
  rectangle: 0.55,2.55 0.95,3.95
  rectangle: 1.05,2.55 1.45,3.95
  rectangle: 1.55,2.55 1.95,3.95
  rectangle: 2.05,2.55 2.45,3.95
  rectangle: 2.55,2.55 2.95,3.95
  rectangle: 3.05,2.55 3.45,3.95
  rectangle: 3.55,2.55 3.95,3.95
  region: 6.6,1.175 4.7,1.175 4.7,-1.175 6.6,-1.175
  region: -4.7,1.175 -6.6,1.175 -6.6,-1.175 -4.7,-1.175
Mechanical 16:
  rectangle: -3.85,2.55 -3.65,3.4
  rectangle: -3.35,2.55 -3.15,3.4
  rectangle: -2.85,2.55 -2.65,3.4
  rectangle: -2.35,2.55 -2.15,3.4
  rectangle: -1.85,2.55 -1.65,3.4
  rectangle: -1.35,2.55 -1.15,3.4
  rectangle: -0.85,2.55 -0.65,3.4
  rectangle: -0.35,2.55 -0.15,3.4
  rectangle: 0.15,2.55 0.35,3.4
  rectangle: 0.65,2.55 0.85,3.4
  rectangle: 1.15,2.55 1.35,3.4
  rectangle: 1.65,2.55 1.85,3.4
  rectangle: 2.15,2.55 2.35,3.4
  rectangle: 2.65,2.55 2.85,3.4
  rectangle: 3.15,2.55 3.35,3.4
  rectangle: 3.65,2.55 3.85,3.4
  lines w0.203: -5.45,-1.9 -5.45,-0.5 -5.95,-0.5 -5.95,0.5 -5.45,0.5 -5.45,2.5 5.45,2.5 5.45,0.5 5.95,0.5 5.95,-0.5 5.45,-0.5 5.45,-1.9

## FH12-16S-1SH [mm]
pads (16):
  rect 0.3x1.3 smd: 1(-7.5,3.25) 2(-6.5,3.25) 3(-5.5,3.25) 4(-4.5,3.25) 5(-3.5,3.25) 6(-2.5,3.25) 7(-1.5,3.25) 8(-0.5,3.25) 9(0.5,3.25) 10(1.5,3.25) 11(2.5,3.25) 12(3.5,3.25) 13(4.5,3.25) 14(5.5,3.25) 15(6.5,3.25) 16(7.5,3.25)
Top Layer:
  region: 10.8,1.1 9,1.1 9,-1.1 10.8,-1.1
  region: -9,1.1 -10.8,1.1 -10.8,-1.1 -9,-1.1
Top Overlay:
  region: 0,0 0.254,0 0.254,0.254 0,0.254
  lines w0.203: -9.7,-1.5 -9.7,-1.9 -9.4,-1.9 ; -9.7,1.5 -9.7,2.5 -8,2.5 ; 8,2.5 9.7,2.5 9.7,1.5 ; 9.7,-1.5 9.7,-1.9 9.4,-1.9 ; -9.4,-1.9 -9.4,-2.2 -9.7,-2.2 -9.7,-2.9 9.7,-2.9 9.7,-2.2 9.4,-2.2 9.4,-1.9 ; -9.4,-1.9 9.4,-1.9
Top Paste:
  rectangle: -7.625,2.625 -7.375,3.875
  rectangle: -6.625,2.625 -6.375,3.875
  rectangle: -5.625,2.625 -5.375,3.875
  rectangle: -4.625,2.625 -4.375,3.875
  rectangle: -3.625,2.625 -3.375,3.875
  rectangle: -2.625,2.625 -2.375,3.875
  rectangle: -1.625,2.625 -1.375,3.875
  rectangle: -0.625,2.625 -0.375,3.875
  rectangle: 0.375,2.625 0.625,3.875
  rectangle: 1.375,2.625 1.625,3.875
  rectangle: 2.375,2.625 2.625,3.875
  rectangle: 3.375,2.625 3.625,3.875
  rectangle: 4.375,2.625 4.625,3.875
  rectangle: 5.375,2.625 5.625,3.875
  rectangle: 6.375,2.625 6.625,3.875
  rectangle: 7.375,2.625 7.625,3.875
  region: 10.725,1.025 9.075,1.025 9.075,-1.025 10.725,-1.025
  region: -9.075,1.025 -10.725,1.025 -10.725,-1.025 -9.075,-1.025
Top Solder:
  rectangle: -7.7,2.55 -7.3,3.95
  rectangle: -6.7,2.55 -6.3,3.95
  rectangle: -5.7,2.55 -5.3,3.95
  rectangle: -4.7,2.55 -4.3,3.95
  rectangle: -3.7,2.55 -3.3,3.95
  rectangle: -2.7,2.55 -2.3,3.95
  rectangle: -1.7,2.55 -1.3,3.95
  rectangle: -0.7,2.55 -0.3,3.95
  rectangle: 0.3,2.55 0.7,3.95
  rectangle: 1.3,2.55 1.7,3.95
  rectangle: 2.3,2.55 2.7,3.95
  rectangle: 3.3,2.55 3.7,3.95
  rectangle: 4.3,2.55 4.7,3.95
  rectangle: 5.3,2.55 5.7,3.95
  rectangle: 6.3,2.55 6.7,3.95
  rectangle: 7.3,2.55 7.7,3.95
  region: 10.85,1.175 8.95,1.175 8.95,-1.175 10.85,-1.175
  region: -8.95,1.175 -10.85,1.175 -10.85,-1.175 -8.95,-1.175
Mechanical 16:
  rectangle: -7.6,2.55 -7.4,3.4
  rectangle: -6.6,2.55 -6.4,3.4
  rectangle: -5.6,2.55 -5.4,3.4
  rectangle: -4.6,2.55 -4.4,3.4
  rectangle: -3.6,2.55 -3.4,3.4
  rectangle: -2.6,2.55 -2.4,3.4
  rectangle: -1.6,2.55 -1.4,3.4
  rectangle: -0.6,2.55 -0.4,3.4
  rectangle: 0.4,2.55 0.6,3.4
  rectangle: 1.4,2.55 1.6,3.4
  rectangle: 2.4,2.55 2.6,3.4
  rectangle: 3.4,2.55 3.6,3.4
  rectangle: 4.4,2.55 4.6,3.4
  rectangle: 5.4,2.55 5.6,3.4
  rectangle: 6.4,2.55 6.6,3.4
  rectangle: 7.4,2.55 7.6,3.4
  lines w0.203: -9.7,-1.9 -9.7,-0.5 -10.2,-0.5 -10.2,0.5 -9.7,0.5 -9.7,2.5 9.7,2.5 9.7,0.5 10.2,0.5 10.2,-0.5 9.7,-0.5 9.7,-1.9